# Altium schematic symbol library MIC841.SchLib: 2 symbols
Pins are listed as number, name and electrical type; pins without a type are passive.

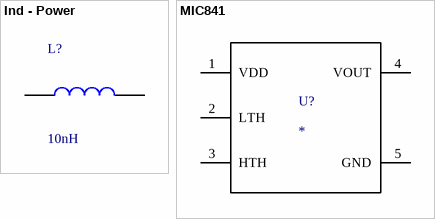
[diagram p0: symbols Ind - Power to MIC841]

## Ind - Power
designator L?, comment value 10nH  (hidden comment: Ind)
Power Inductor for DC-DC convters (RF switching freq); Digi-Key Part Number: *; Distributor Part Number: *; Distributor: *; Manufacture Part Number: *; Manufacture: *; Note: *; Rating: *
footprint Inductor (1120) (Inductor - Boruns - Power - DC/DC - High Current Chokes)
footprint Inductor (1400) (Inductor - Murata - Bobbin Type Inductors)
footprint Inductor (2100LL) (Inductor - Boruns - Low Core Loss, High Current Toroid Inductors)
footprint Inductor (2200LL) (Inductor - Boruns - Low Core Loss, High Current Toroid Inductors)
footprint Inductor - LPS3015 (Coil Craft - LPS3015 (3 x 3 x 1.4mm))
footprint Inductor - [6mm x 6mm] (Power Inductor (6mm x 6mm) - SLF6028 Series)
footprint 1008 (Surface Mount; Body 2.0 x 1.25 mm (LxW typ))
pins: 1, 2

## MIC841
designator U?
Name: MIC841
footprint SC-70-5
pins: 1 VDD, 2 LTH, 3 HTH, 4 VOUT, 5 GND